# Altium footprint library MioMicro.PcbLib: 28 footprints (part 1 of 2)
Each footprint in its own frame and in the unit in brackets; x right, y up, seen from the top. Pads: shape width x height; smd on the part's side, far side on the other; paste and mask are expansions set on the pad; w line width, h text height; cw(c..) or ccw(c..) is an arc to the next point about the centre after c.
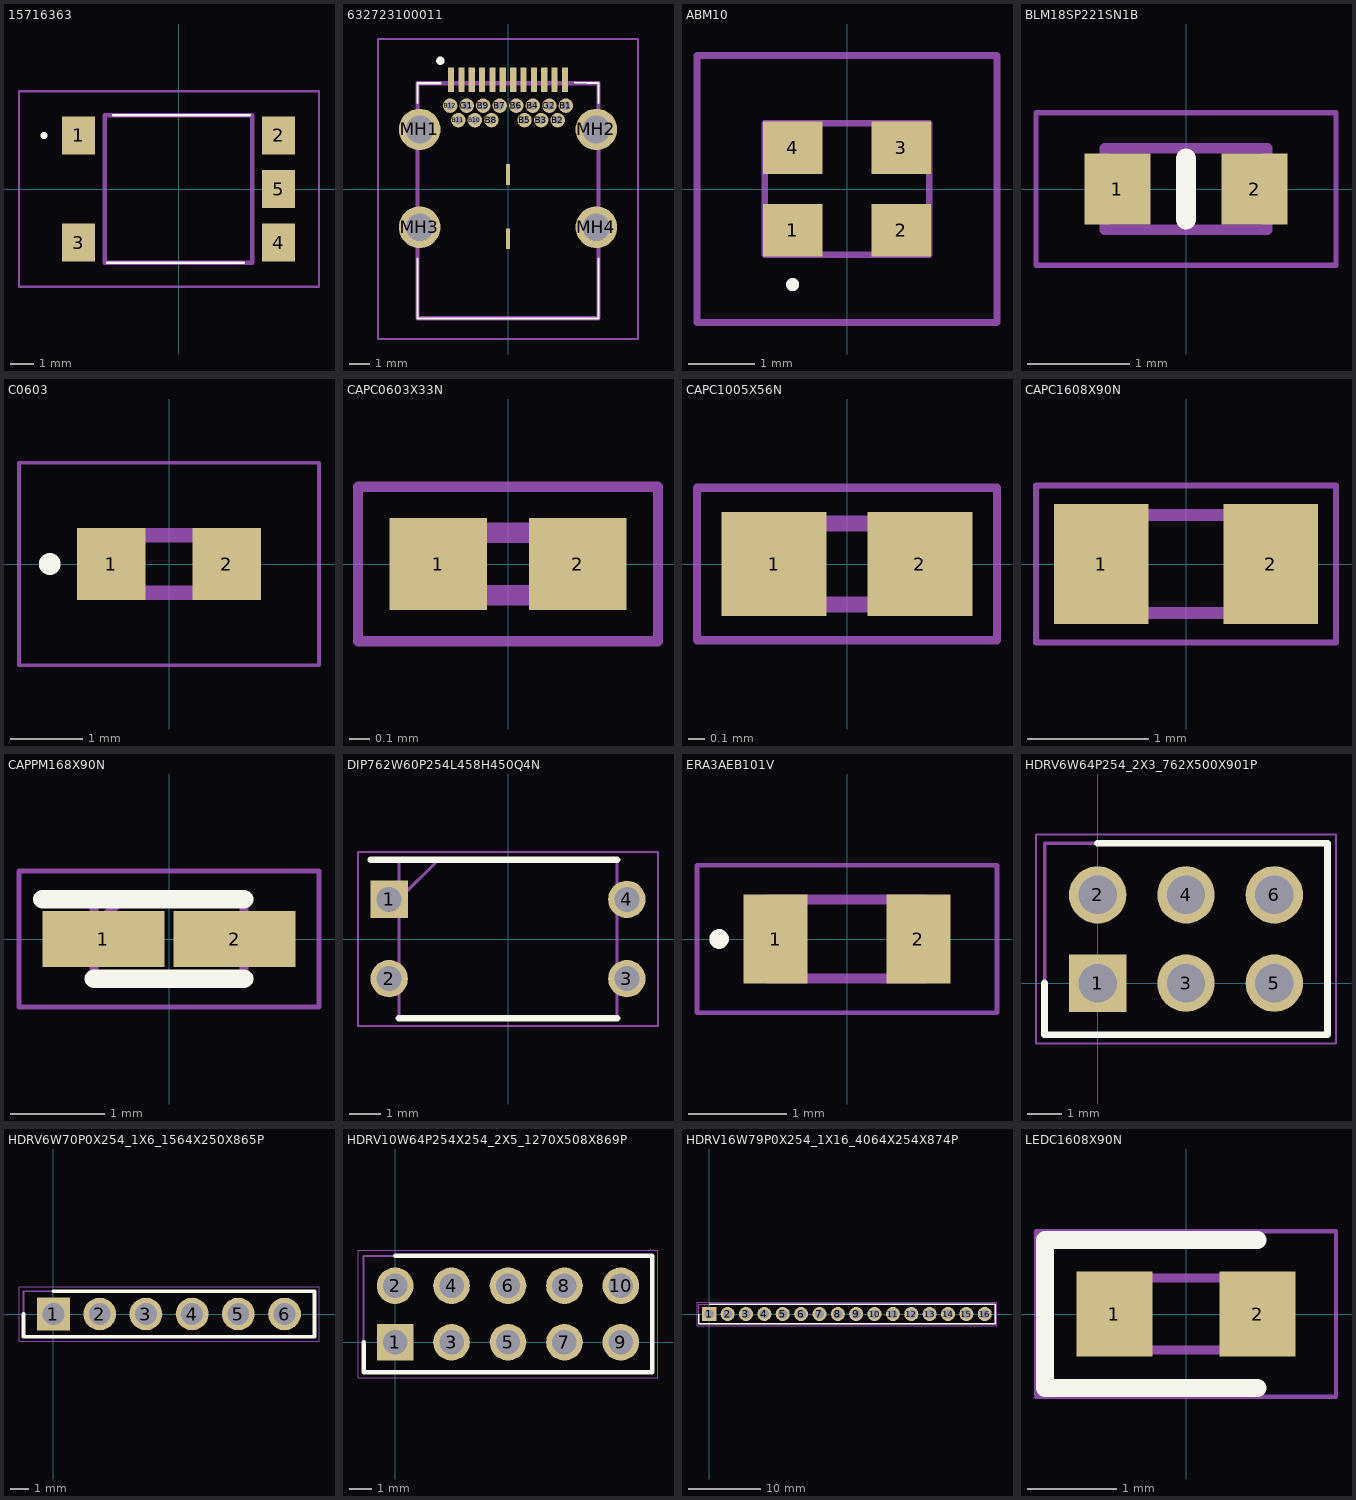
[diagram p0: the footprints below, top view; thin cyan lines are the x and y axes]

## 15716363 [mm]
pads (5):
  rect 1.4x1.6 smd: 1(-4.2,2.25) 2(4.2,2.25) 3(-4.2,-2.25) 4(4.2,-2.25) 5(4.2,0)
Top Overlay:
  lines w0.1: -3,-3.1 2.75,-3.1 -3,-3.1 ; -2.75,3.1 3,3.1 -2.75,3.1
  lines w0.2: -5.7,2.25 ccw(c-5.65,2.25) -5.6,2.25 ; -5.7,2.25 cw(c-5.65,2.25) -5.6,2.25 ; -5.7,2.25 ccw(c-5.65,2.25) -5.6,2.25
Mechanical 13:
  lines w0.2: -3.1,-3.1 -3.1,3.1 3.1,3.1 3.1,-3.1 -3.1,-3.1
Mechanical 15:
  lines w0.1: -6.7,-4.1 -6.7,4.1 5.9,4.1 5.9,-4.1 -6.7,-4.1
3D body "1571636-3.stp": height 2.58, standoff 0, extent -4.13,-3.25 4.07,3.25

## 632723100011 [mm]
pads (32):
  rect 0.3x1.2 smd: A1(-2.75,5.28) A2(-2.25,5.28) A3(-1.75,5.28) A4(-1.25,5.28) A5(-0.75,5.28) A6(-0.25,5.28) A7(0.25,5.28) A8(0.75,5.28) A9(1.25,5.28) A10(1.75,5.28) A11(2.25,5.28) A12(2.75,5.28)
  round 0.7 hole 0.4: B1(2.8,4.03) B2(2.4,3.33) B3(1.6,3.33) B4(1.2,4.03) B5(0.8,3.33) B6(0.4,4.03) B7(-0.4,4.03) B8(-0.8,3.33) B9(-1.2,4.03) B10(-1.6,3.33) B11(-2.4,3.33) B12(-2.8,4.03) G1(-2,4.03) G2(2,4.03)
  round 2.01 hole 1.34: MH1(-4.27,2.88) MH2(4.27,2.88) MH3(-4.27,-1.85) MH4(4.27,-1.85)
  rect 0.2x1 smd: MP1(0,0.7) MP2(0,-2.4)
Top Overlay:
  lines w0.1: -4.37,-3.35 -4.37,-6.25 4.37,-6.25 4.37,-3.35 ; -4.37,4.15 -4.37,5.11 -3.27,5.11 ; 3.23,5.15 4.37,5.11 4.37,4.15
  lines w0.3: -3.27,6.15 ccw(c-3.27,6.2) -3.27,6.25 ccw(c-3.27,6.2) -3.27,6.15
Mechanical 13:
  lines w0.2: -4.37,-6.25 4.37,-6.25 4.37,5.11 -4.37,5.11 -4.37,-6.25
Mechanical 15:
  lines w0.1: -6.275,-7.25 6.275,-7.25 6.275,7.25 -6.275,7.25 -6.275,-7.25
3D body "632723100011.stp": height 2.93, standoff -1.93, extent -4.37,-6.245 4.37,5.549

## ABM10 [mm]
pads (4):
  rect 0.9x0.8 smd: 1(-0.825,-0.625) 2(0.825,-0.625) 3(0.825,0.625) 4(-0.825,0.625)
Top Overlay:
  lines w0.1: -0.825,-1.5 ccw(c-0.825,-1.45) -0.825,-1.4 ccw(c-0.825,-1.45) -0.825,-1.5
Mechanical 13:
  lines w0.1: -1.25,-1 -1.25,1 1.25,1 1.25,-1 -1.25,-1
Mechanical 15:
  lines w0.1: -2.275,-2.025 -2.275,2.025 2.275,2.025 2.275,-2.025 -2.275,-2.025
3D body "ABM10-16.000MHZ-1-N20.stp": height 0.8, standoff 0, extent -1.25,-1 1.25,1

## BLM18SP221SN1B [mm]
pads (2):
  rect 0.65x0.7 smd: 1(-0.675,0) 2(0.675,0)
Top Overlay:
  lines w0.2: 0,-0.3 0,0.3
Mechanical 13:
  lines w0.1: -0.8,-0.4 -0.8,0.4 0.8,0.4 0.8,-0.4 -0.8,-0.4
Mechanical 15:
  lines w0.05: -1.475,-0.75 -1.475,0.75 1.475,0.75 1.475,-0.75 -1.475,-0.75
3D body "BLM18PG471SN1D.stp": height 0.8, standoff 0, extent -0.8,-0.4 0.8,0.4

## C0603 [mm]
pads (2):
  rect 0.95x1 smd: 1(-0.8,0) 2(0.8,0)
Top Overlay:
  circle w0.2: c-1.65,0 r0.05
Mechanical 13:
  lines w0.2: -0.8,-0.4 -0.8,0.4 0.8,0.4 0.8,-0.4 -0.8,-0.4
Mechanical 15:
  lines w0.05: -2.075,-1.4 -2.075,1.4 2.075,1.4 2.075,-1.4 -2.075,-1.4
3D body "C0603C475K9PACTU.stp": height 0.87, standoff 0, extent -0.87,-0.48 0.88,0.47

## CAPC0603X33N [mm]
pads (2):
  rect 0.47x0.44 smd: 1(-0.335,0) 2(0.335,0)
Mechanical 13:
  lines w0.1: -0.3,-0.15 0.3,-0.15 0.3,0.15 -0.3,0.15 -0.3,-0.15
Mechanical 15:
  lines w0.05: -0.72,-0.37 0.72,-0.37 0.72,0.37 -0.72,0.37 -0.72,-0.37
3D body "02013A150GAT2A.stp": height 0.33, standoff 0, extent -0.3,-0.15 0.3,0.15

## CAPC1005X56N [mm]
pads (2):
  rect 0.65x0.64 smd: 1(-0.45,0) 2(0.45,0)
Mechanical 13:
  lines w0.1: -0.5,-0.25 -0.5,0.25 0.5,0.25 0.5,-0.25 -0.5,-0.25
Mechanical 15:
  lines w0.05: -0.925,-0.47 -0.925,0.47 0.925,0.47 0.925,-0.47 -0.925,-0.47
3D body "04026D104KAT2A.stp": height 0.56, standoff 0, extent -0.5,-0.25 0.5,0.25

## CAPC1608X90N [mm]
pads (2):
  rect 0.78x0.99 smd: 1(-0.7,0) 2(0.7,0)
Mechanical 13:
  lines w0.1: -0.8,-0.405 -0.8,0.405 0.8,0.405 0.8,-0.405 -0.8,-0.405
Mechanical 15:
  lines w0.05: -1.24,-0.65 -1.24,0.65 1.24,0.65 1.24,-0.65 -1.24,-0.65
3D body "06033G104ZAT2A.stp": height 0.9, standoff 0, extent -0.8,-0.405 0.8,0.405

## CAPPM168X90N [mm]
pads (2):
  rect 1.3x0.6 smd: 1(-0.7,0) 2(0.7,0)
Top Overlay:
  lines w0.2: -1.35,0.425 0.8,0.425 ; -0.8,-0.425 0.8,-0.425
Mechanical 13:
  lines w0.1: -0.8,0.125 -0.5,0.425 ; -0.8,-0.425 -0.8,0.425 0.8,0.425 0.8,-0.425 -0.8,-0.425
Mechanical 15:
  lines w0.05: -1.6,-0.725 -1.6,0.725 1.6,0.725 1.6,-0.725 -1.6,-0.725
3D body "TCM0J106M8R.stp": height 0.9, standoff 0, extent -0.8,-0.425 0.8,0.425

## DIP762W60P254L458H450Q4N [mm]
pads (4):
  rect 1.2x1.2 hole 0.8: 1(-3.81,1.27)
  round 1.2 hole 0.8: 2(-3.81,-1.27) 3(3.81,-1.27) 4(3.81,1.27)
Top Overlay:
  lines w0.2: -4.41,2.54 3.5,2.54 ; -3.5,-2.54 3.5,-2.54
Mechanical 13:
  lines w0.1: -3.5,1.27 -2.23,2.54 ; -3.5,-2.54 -3.5,2.54 3.5,2.54 3.5,-2.54 -3.5,-2.54
Mechanical 15:
  lines w0.05: -4.81,-2.79 -4.81,2.79 4.81,2.79 4.81,-2.79 -4.81,-2.79
3D body "PC817A.stp": height 4.5, standoff -3.5, extent -3.96,-2.29 3.96,2.29

## ERA3AEB101V [mm]
pads (2):
  rect 0.65x0.9 smd: 1(-0.725,0) 2(0.725,0)
Top Overlay:
  lines w0.1: -1.3,-0.05 ccw(c-1.3,0) -1.3,0.05 ccw(c-1.3,0) -1.3,-0.05
Mechanical 13:
  lines w0.1: -0.8,-0.4 -0.8,0.4 0.8,0.4 0.8,-0.4 -0.8,-0.4
Mechanical 15:
  lines w0.05: -1.525,-0.75 -1.525,0.75 1.525,0.75 1.525,-0.75 -1.525,-0.75
3D body "ERA-3AED512V.stp": height 0.45, standoff 0, extent -0.8,-0.4 0.8,0.4

## HDRV6W64P254_2X3_762X500X901P [mm]
pads (6):
  rect 1.65x1.65 hole 1.1: 1(0,0)
  round 1.65 hole 1.1: 2(0,2.54) 3(2.54,0) 4(2.54,2.54) 5(5.08,0) 6(5.08,2.54)
Top Overlay:
  lines w0.2: -1.524,0 -1.524,-1.484 6.604,-1.484 6.604,4.024 0,4.024
Mechanical 13:
  lines w0.1: -1.524,-1.484 6.604,-1.484 6.604,4.024 -1.524,4.024 -1.524,-1.484
Mechanical 15:
  lines w0.05: -1.774,-1.734 6.854,-1.734 6.854,4.274 -1.774,4.274 -1.774,-1.734
3D body "PH2-06-UA.stp": height 9.01, standoff -3.56, extent -1.27,-1.23 6.35,3.77

## HDRV6W70P0X254_1X6_1564X250X865P [mm]
pads (6):
  rect 1.8x1.8 hole 1.2: 1(0,0)
  round 1.8 hole 1.2: 2(2.54,0) 3(5.08,0) 4(7.62,0) 5(10.16,0) 6(12.7,0)
Top Overlay:
  lines w0.2: -1.645,0 -1.645,-1.25 14.345,-1.25 14.345,1.25 0,1.25
Mechanical 13:
  lines w0.1: -1.645,-1.25 -1.645,1.25 14.345,1.25 14.345,-1.25 -1.645,-1.25
Mechanical 15:
  lines w0.05: -1.895,-1.5 -1.895,1.5 14.595,1.5 14.595,-1.5 -1.895,-1.5
3D body "M20-7820646.stp": height 8.65, standoff -3.25, extent -1.47,-1.25 14.17,1.25

## HDRV10W64P254X254_2X5_1270X508X869P [mm]
pads (10):
  rect 1.65x1.65 hole 1.1: 1(0,0)
  round 1.65 hole 1.1: 2(0,2.54) 3(2.54,0) 4(2.54,2.54) 5(5.08,0) 6(5.08,2.54) 7(7.62,0) 8(7.62,2.54) 9(10.16,0) 10(10.16,2.54)
Top Overlay:
  lines w0.2: -1.42,0 -1.42,-1.345 11.58,-1.345 11.58,3.885 0,3.885
Mechanical 13:
  lines w0.1: -1.42,-1.345 11.58,-1.345 11.58,3.885 -1.42,3.885 -1.42,-1.345
Mechanical 15:
  lines w0.05: -1.67,-1.595 11.83,-1.595 11.83,4.135 -1.67,4.135 -1.67,-1.595
3D body "61301021121.stp": height 8.69, standoff -3.2, extent -1.27,-1.27 11.43,3.81

## HDRV16W79P0X254_1X16_4064X254X874P [mm]
pads (16):
  rect 1.95x1.95 hole 1.3: 1(0,0)
  round 1.95 hole 1.3: 2(2.54,0) 3(5.08,0) 4(7.62,0) 5(10.16,0) 6(12.7,0) 7(15.24,0) 8(17.78,0) 9(20.32,0) 10(22.86,0) 11(25.4,0) 12(27.94,0) 13(30.48,0) 14(33.02,0) 15(35.56,0) 16(38.1,0)
Top Overlay:
  lines w0.2: -1.445,0 -1.445,-1.345 39.545,-1.345 39.545,1.345 0,1.345
Mechanical 13:
  lines w0.1: -1.445,-1.345 39.545,-1.345 39.545,1.345 -1.445,1.345 -1.445,-1.345
Mechanical 15:
  lines w0.05: -1.695,-1.595 39.795,-1.595 39.795,1.595 -1.695,1.595 -1.695,-1.595
3D body "61301611121.stp": height 8.74, standoff -3.2, extent -1.27,-1.27 39.37,1.27

## LEDC1608X90N [mm]
pads (2):
  rect 0.85x0.95 smd: 1(-0.8,0) 2(0.8,0)
Top Overlay:
  lines w0.2: 0.8,-0.825 -1.575,-0.825 -1.575,0.825 0.8,0.825
Mechanical 13:
  lines w0.1: -0.8,0.133 -0.533,0.4 ; -0.8,-0.4 -0.8,0.4 0.8,0.4 0.8,-0.4 -0.8,-0.4
Mechanical 15:
  lines w0.05: -1.675,-0.925 -1.675,0.925 1.675,0.925 1.675,-0.925 -1.675,-0.925
3D body "HSMG-C190.stp": height 0.8, standoff 0, extent -0.83,-0.4 0.77,0.4